# EAGLE library part T-2054 (library dec-con)
T-2054 Pulse Transformer
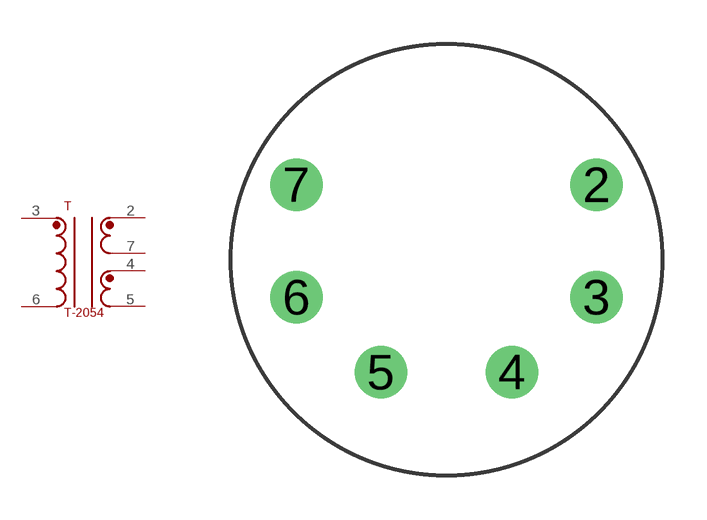
[diagram p51: symbol with the pads of TRANSFORMER6B; footprint TRANSFORMER6B]

Designator prefix T

## T-2054  [TRANSFORMER6B]
2  2  pas
3  3  pas
4  1  pas
5  6  pas
6  4  pas
7  5  pas

## Footprint TRANSFORMER6B (pad centres in mm)
6 Pin Toroidal Transformer 2-7
drill 0.813 pad 1.778: 2 5.08,2.54; 3 5.08,-1.27; 4 2.223,-3.81; 5 -2.223,-3.81; 6 -5.08,-1.27; 7 -5.08,2.54